# Altium footprint library Drive_GD32F.PcbLib: 35 footprints (part 2 of 3)
Each footprint in its own frame and in the unit in brackets; x right, y up, seen from the top. Pads: shape width x height; smd on the part's side, far side on the other; paste and mask are expansions set on the pad; w line width, h text height; cw(c..) or ccw(c..) is an arc to the next point about the centre after c.
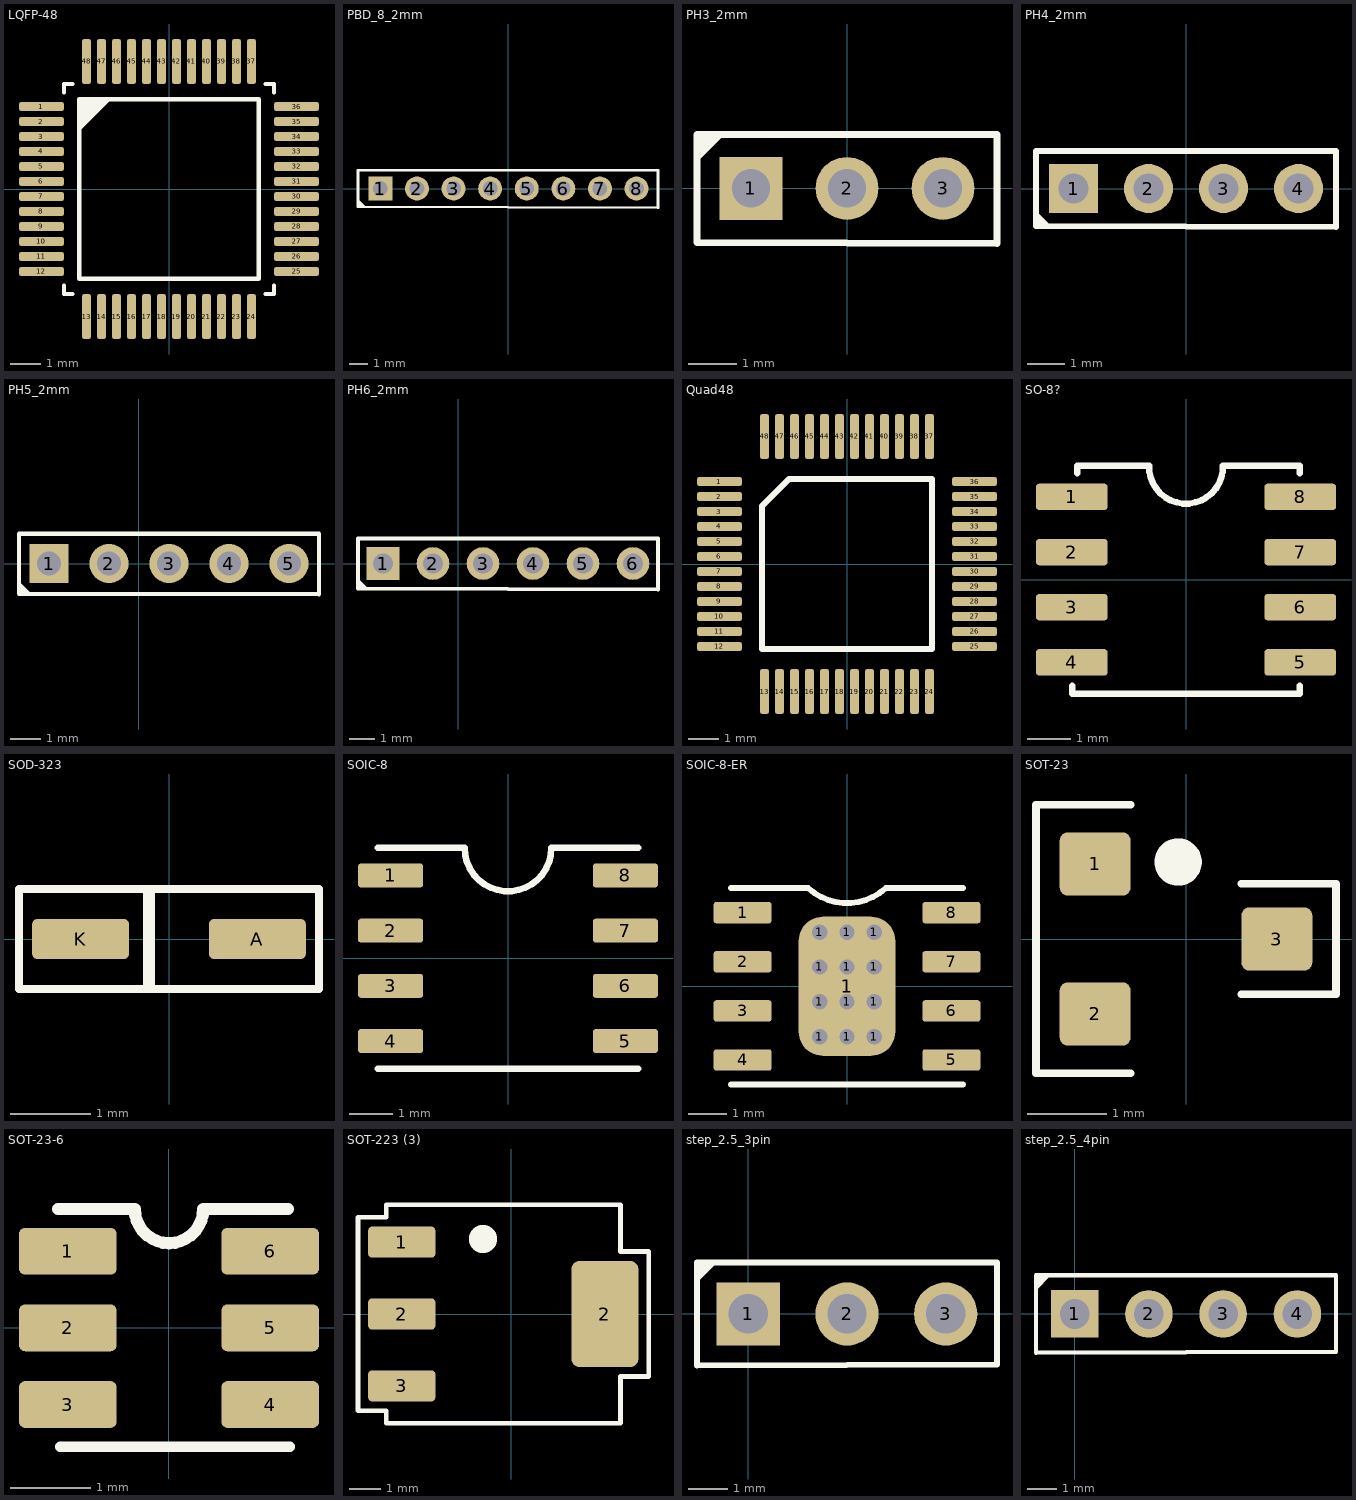
[diagram p1: the footprints below, top view; thin cyan lines are the x and y axes]

## LQFP-48 [mm]
pads (48):
  rrect50% 1.5x0.3 smd mask+0.025: 1(-4.25,2.75) 2(-4.25,2.25) 3(-4.25,1.75) 4(-4.25,1.25) 5(-4.25,0.75) 6(-4.25,0.25) 7(-4.25,-0.25) 8(-4.25,-0.75) 9(-4.25,-1.25) 10(-4.25,-1.75) 11(-4.25,-2.25) 12(-4.25,-2.75) 25(4.25,-2.75) 26(4.25,-2.25) 27(4.25,-1.75) 28(4.25,-1.25) 29(4.25,-0.75) 30(4.25,-0.25) 31(4.25,0.25) 32(4.25,0.75) 33(4.25,1.25) 34(4.25,1.75) 35(4.25,2.25) 36(4.25,2.75)
  rrect50% 0.3x1.5 smd mask+0.025: 13(-2.75,-4.25) 14(-2.25,-4.25) 15(-1.75,-4.25) 16(-1.25,-4.25) 17(-0.75,-4.25) 18(-0.25,-4.25) 19(0.25,-4.25) 20(0.75,-4.25) 21(1.25,-4.25) 22(1.75,-4.25) 23(2.25,-4.25) 24(2.75,-4.25) 37(2.75,4.25) 38(2.25,4.25) 39(1.75,4.25) 40(1.25,4.25) 41(0.75,4.25) 42(0.25,4.25) 43(-0.25,4.25) 44(-0.75,4.25) 45(-1.25,4.25) 46(-1.75,4.25) 47(-2.25,4.25) 48(-2.75,4.25)
Top Overlay:
  region: -3,3 -3,2 -2,3
  lines w0.127: -3.5,-3.21 -3.5,-3.5 -3.21,-3.5 ; -3.5,3.21 -3.5,3.5 -3.21,3.5 ; 3.21,-3.5 3.5,-3.5 3.5,-3.21 ; 3.21,3.5 3.5,3.5 3.5,3.21
  lines w0.15: -3,2 -2,3 ; -3,-3 -3,3 3,3 3,-3 -3,-3
3D body "STM32F100C8T6B.STEP": height 1.6, standoff 0, extent -4.5,-4.5 4.5,4.5

## PBD_8_2mm [mm]
pads (8):
  rect 1.308x1.308 / inner round 1.308 / far side rect 1.308x1.308 hole 0.8: 1(-7,0)
  round 1.308 hole 0.8: 2(-5,0) 3(-3,0) 4(-1,0) 5(1,0) 6(3,0) 7(5,0) 8(7,0)
Top Overlay:
  region: -8.187,-1.013 -8.187,-0.613 -7.812,-0.988
  lines w0.15: -8.225,-0.999 -8.225,1 8.175,1 8.175,-1.051 -8.225,-0.999
3D body "8-pin-2mm-1x8.stp": height 6.35, standoff -1.65, extent -8.149,-0.999 8.149,0.999

## PH3_2mm [mm]
pads (3):
  rect 1.308x1.308 / inner round 1.308 / far side rect 1.308x1.308 hole 0.8: 1(-2,0)
  round 1.308 hole 0.8: 2(0,0) 3(2,0)
Top Overlay:
  rectangle: -3.125,1.1 -2.55,1.125
  region: -3.125,1.125 -2.55,1.125 -3.05,0.625 -3.125,0.625
  lines w0.15: -3.125,-1.125 3.125,-1.15 3.125,1.125 -3.125,1.125 -3.125,-1.125

## PH4_2mm [mm]
pads (4):
  rect 1.308x1.308 / inner round 1.308 / far side rect 1.308x1.308 hole 0.8: 1(-3,0)
  round 1.308 hole 0.8: 2(-1,0) 3(1,0) 4(3,0)
Top Overlay:
  region: -4,-1 -4,-0.6 -3.625,-0.975
  lines w0.15: -4,-1 4,-1.025 4,1 -4,1 -4,-1

## PH5_2mm [mm]
pads (5):
  rect 1.308x1.308 / inner round 1.308 / far side rect 1.308x1.308 hole 0.8: 1(-3,0)
  round 1.308 hole 0.8: 2(-1,0) 3(1,0) 4(3,0) 5(5,0)
Top Overlay:
  region: -4,-1 -4,-0.6 -3.625,-0.975
  lines w0.15: -4,-1 6,-1.031 6,1 -4,1 -4,-1

## PH6_2mm [mm]
pads (6):
  rect 1.308x1.308 / inner round 1.308 / far side rect 1.308x1.308 hole 0.8: 1(-3,0)
  round 1.308 hole 0.8: 2(-1,0) 3(1,0) 4(3,0) 5(5,0) 6(7,0)
Top Overlay:
  region: -4,-1 -4,-0.6 -3.625,-0.975
  lines w0.15: -4,-1 -4,1 8,1 8,-1.038 -4,-1

## Quad48 [mm]
pads (48):
  rrect50% 1.5x0.3 smd: 1(-4.25,2.75) 2(-4.25,2.25) 3(-4.25,1.75) 4(-4.25,1.25) 5(-4.25,0.75) 6(-4.25,0.25) 7(-4.25,-0.25) 8(-4.25,-0.75) 9(-4.25,-1.25) 10(-4.25,-1.75) 11(-4.25,-2.25) 12(-4.25,-2.75) 25(4.25,-2.75) 26(4.25,-2.25) 27(4.25,-1.75) 28(4.25,-1.25) 29(4.25,-0.75) 30(4.25,-0.25) 31(4.25,0.25) 32(4.25,0.75) 33(4.25,1.25) 34(4.25,1.75) 35(4.25,2.25) 36(4.25,2.75)
  rrect50% 0.3x1.5 smd: 13(-2.75,-4.25) 14(-2.25,-4.25) 15(-1.75,-4.25) 16(-1.25,-4.25) 17(-0.75,-4.25) 18(-0.25,-4.25) 19(0.25,-4.25) 20(0.75,-4.25) 21(1.25,-4.25) 22(1.75,-4.25) 23(2.25,-4.25) 24(2.75,-4.25) 37(2.75,4.25) 38(2.25,4.25) 39(1.75,4.25) 40(1.25,4.25) 41(0.75,4.25) 42(0.25,4.25) 43(-0.25,4.25) 44(-0.75,4.25) 45(-1.25,4.25) 46(-1.75,4.25) 47(-2.25,4.25) 48(-2.75,4.25)
Top Overlay:
  lines w0.2: -2.84,-2.84 -2.84,1.93 -1.93,2.84 2.84,2.84 2.84,-2.84 -2.84,-2.84

## SO-8? [mm]
pads (8):
  rrect25% 1.65x0.61 smd: 1(-2.63,1.905) 2(-2.63,0.635) 3(-2.63,-0.635) 4(-2.63,-1.905) 5(2.63,-1.905) 6(2.63,-0.635) 7(2.63,0.635) 8(2.63,1.905)
Top Overlay:
  lines w0.15: -2.625,-2.45 -2.625,-2.625 2.625,-2.625 2.625,-2.45 ; -2.5,2.45 -2.5,2.625 -0.85,2.625 ; -0.85,2.626 ccw(c0,2.6) 0.85,2.624 2.625,2.624 2.625,2.45 2.625,2.625
3D body "24FC256-I_SN.STEP": height 1.75, standoff 0, extent -3,-2.45 3,2.45

## SOD-323 [mm]
pads (2):
  rrect25% 1.21x0.5 smd: A(1.105,0) K(-1.105,0)
Top Overlay:
  lines w0.1: -1.875,-0.625 -1.875,0.625 1.875,0.625 1.875,-0.625 -1.875,-0.625
  lines w0.15: -0.25,-0.6 -0.25,0.6
3D body "BAT60BE6327HTSA1.STEP": height 1.1, standoff 0, extent -1.25,-0.625 1.25,0.625

## SOIC-8 [mm]
pads (8):
  rrect25% 1.5x0.55 smd: 1(-2.7,1.905) 2(-2.7,0.635) 3(-2.7,-0.635) 4(-2.7,-1.905) 5(2.7,-1.905) 6(2.7,-0.635) 7(2.7,0.635) 8(2.7,1.905)
Top Overlay:
  lines w0.15: -3,-2.54 3,-2.54 ; -3,2.54 -1,2.54 ccw(c0,2.54) 1,2.54 3,2.54
3D body "SOIC-8.step": height 1.75, standoff 0, extent -3,-2.45 3,2.45

## SOIC-8-ER [mm]
pads (21):
  rrect25% 1.5x0.55 smd: 1(-2.7,1.905) 2(-2.7,0.635) 3(-2.7,-0.635) 4(-2.7,-1.905) 5(2.7,-1.905) 6(2.7,-0.635) 7(2.7,0.635) 8(2.7,1.905)
  round 0.4 hole 0.4: 1(-0.7,-1.3) 1(-0.7,-0.4) 1(-0.7,0.5) 1(-0.7,1.4) 1(0,-1.3) 1(0,-0.4) 1(0,0.5) 1(0,1.4) 1(0.7,-1.3) 1(0.7,-0.4) 1(0.7,0.5) 1(0.7,1.4)
  rrect50% 2.5x3.6 all layers, no hole: 1(0,0)
Top Overlay:
  lines w0.15: -3,-2.54 3,-2.54 ; -3,2.54 -1,2.54 ccw(c0,3.626) 1,2.54 3,2.54
3D body "A4950ELJTR-T--3DModel-STEP-56544 (1).STEP": height 1.7, standoff 0, extent -3,-2.45 3,2.45

## SOT-23 [mm]
pads (3):
  rrect25% 0.9x0.8 smd: 1(-1.15,0.95) 2(-1.15,-0.95) 3(1.15,0)
Top Overlay:
  circle w0.3: c-0.1,0.975 r0.15
  lines w0.1: -0.7,-1.7 -1.9,-1.7 -1.9,1.7 -0.7,1.7 ; 0.7,-0.7 1.9,-0.7 1.9,0.7 0.7,0.7
3D body "SOT-23.step": height 1.1, standoff 0, extent -1.25,-1.5 1.25,1.5

## SOT-23-6 [mm]
pads (6):
  rrect25% 1.21x0.58 smd: 1(-1.255,0.95) 2(-1.255,0) 3(-1.255,-0.95) 4(1.255,-0.95) 5(1.255,0) 6(1.255,0.95)
Top Overlay:
  lines w0.127: -1.35,-1.475 1.5,-1.475
  lines w0.15: -1.375,1.475 -0.425,1.475 ccw(c0,1.475) 0.425,1.475 1.475,1.475
3D body "INA181A3IDBVR.STEP": height 1.45, standoff 0, extent -1.4,-1.45 1.4,1.45

## SOT-223 (3) [mm]
pads (4):
  rrect25% 2.15x1 smd: 1(-3.5,2.3) 2(-3.5,0) 3(-3.5,-2.3)
  rrect25% 2.15x3.4 smd: 2(3,0)
Top Overlay:
  circle w0.5: c-0.9,2.4 r0.2
  lines w0.15: -4.9,-3.1 -4,-3.1 -4,-3.5 3.5,-3.5 3.5,-2 4.4,-2 4.4,2 3.5,2 3.5,3.5 -4,3.5 -4,3.1 -4.9,3.1 -4.9,-3.1
3D body "SOT223-4.step": height 1.64, standoff -0.01, extent -3.75,-3.25 3.25,3.25

## step_2.5_3pin [mm]
pads (3):
  rect 1.6x1.6 hole 1: 1(0,0)
  round 1.6 hole 1: 2(2.5,0) 3(5,0)
Top Overlay:
  region: -0.8,1.3 -1.3,0.8 -1.3,1.3
  lines w0.15: -1.3,-1.302 6.3,-1.276 6.3,1.3 -1.3,1.3 -1.3,-1.302

## step_2.5_4pin [mm]
pads (4):
  rect 1.6x1.6 hole 1: 1(0,0)
  round 1.6 hole 1: 2(2.5,0) 3(5,0) 4(7.5,0)
Top Overlay:
  region: -0.8,1.3 -1.3,0.8 -1.3,1.3
  lines w0.15: -1.3,-1.302 -1.3,1.3 8.8,1.3 8.8,-1.268 -1.3,-1.302